# EAGLE library part SI1016CX-T1-GE3 (library pepin)
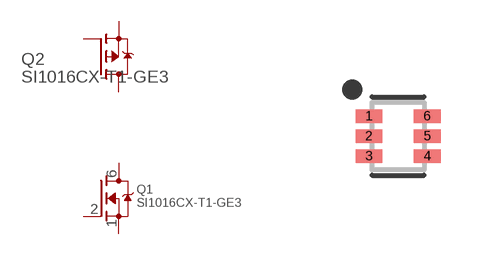
[diagram p23: symbol with the pads of SOTFL50P160X60-6N; footprint SOTFL50P160X60-6N]

Designator prefix Q; gates 1=MOSFET-N 2=P-MOSFET

## SI1016CX-T1-GE3SOT-563F  [SOTFL50P160X60-6N]
1  1:S
2  1:G
3  2:D  pas
4  2:S  pas
5  2:G  pas
6  1:D

## Footprint SOTFL50P160X60-6N (pad centres in mm)
6-SOTFL, 0.50 mm pitch, 1.60 mm span, 1.60 X 1.20 X 0.60 mm body 6-pin SOTFL package with 0.50 mm pitch, 1.60 mm span with body size 1.60 X 1.20 X 0.60 mm
smd 0.673 x 0.337: 1 -0.728,0.5; 2 -0.728,0; 3 -0.728,-0.5; 4 0.728,-0.5; 5 0.728,0; 6 0.728,0.5